# EAGLE library part AD7980 (library Spectron2)
PulSAR Analog-to-Digital Converters
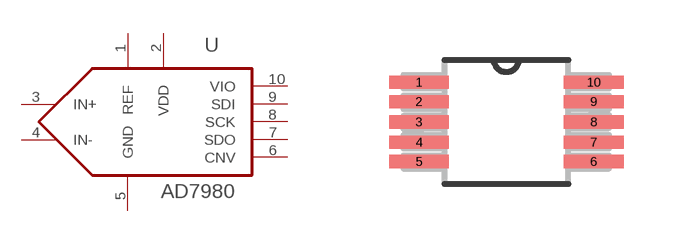
[diagram p0: symbol with the pads of SOP50P490X110-10N; footprint SOP50P490X110-10N]

Designator prefix U

## AD7980 (MPN: AD7980ARMZ; OC_FARNELL: 1607233; OC_NEWARK: 54M6760; PACKAGE: MSOP-10; SUPPLIER: Analog Devices)  [SOP50P490X110-10N]
1  REF  in
2  VDD  pwr
3  IN+  in
4  IN-  in
5  GND  pas
6  CNV  in
7  SDO  out
8  SCK  in
9  SDI  in
10  VIO  pwr

## Footprint SOP50P490X110-10N (pad centres in mm)
smd 1.499 x 0.33: 1 -2.184,0.991; 2 -2.184,0.508; 3 -2.184,0; 4 -2.184,-0.508; 5 -2.184,-0.991; 6 2.184,-0.991; 7 2.184,-0.508; 8 2.184,0; 9 2.184,0.508; 10 2.184,0.991